# Altium footprint library crystals.PcbLib: 1 footprints
Each footprint in its own frame and in the unit in brackets; x right, y up, seen from the top. Pads: shape width x height; smd on the part's side, far side on the other; paste and mask are expansions set on the pad; w line width, h text height; cw(c..) or ccw(c..) is an arc to the next point about the centre after c.
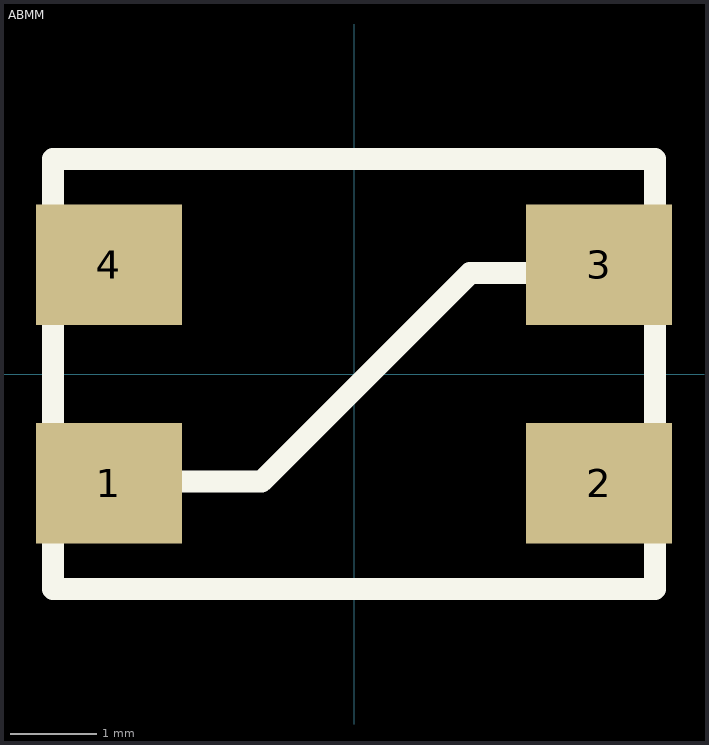
[diagram p0: the footprint, top view; thin cyan lines are the x and y axes]

## ABMM [mm] "CERAMIC SURFACE MOUNT MICROPROCESSOR CRYSTAL 7.0 x 5.0 x 1.3 mm"
pads (4):
  rect 1.7x1.4 smd: 1(-2.85,-1.27) 2(2.85,-1.27) 3(2.85,1.27) 4(-2.85,1.27)
Top Overlay:
  lines w0.254: -2.85,-1.25 -1.075,-1.25 1.35,1.175 2.825,1.175 ; -3.5,-2.5 -3.5,2.5 3.5,2.5 3.5,-2.5 -3.5,-2.5
3D body: height 1.3, standoff 0, extent -3.499,-2.499 3.499,2.499